# Altium schematic symbol library TPS56339.SchLib: 2 symbols
Pins are listed as number, name and electrical type; pins without a type are passive.

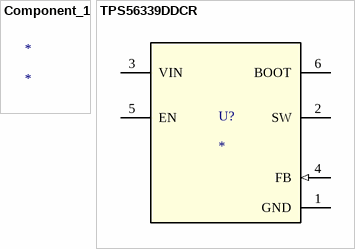
[diagram p0: symbols Component_1 to TPS56339DDCR]

## Component_1
designator *

## TPS56339DDCR
designator U?
No Description Available; Manufacturer: Texas Instruments; PartNumber: TPS56339DDCR; RefDes: RefDes; Type: DEV; Value: Value; Copyright: Copyright (C) 2018 Accelerated Designs. All rights reserved
footprint DDC0006A_N
pins: 1 GND (power), 2 SW (power), 3 VIN (power), 4 FB (in), 5 EN, 6 BOOT (power)